# Altium footprint library 2412_Coin_Cell.PcbLib: 1 footprints
Each footprint in its own frame and in the unit in brackets; x right, y up, seen from the top. Pads: shape width x height; smd on the part's side, far side on the other; paste and mask are expansions set on the pad; w line width, h text height; cw(c..) or ccw(c..) is an arc to the next point about the centre after c.
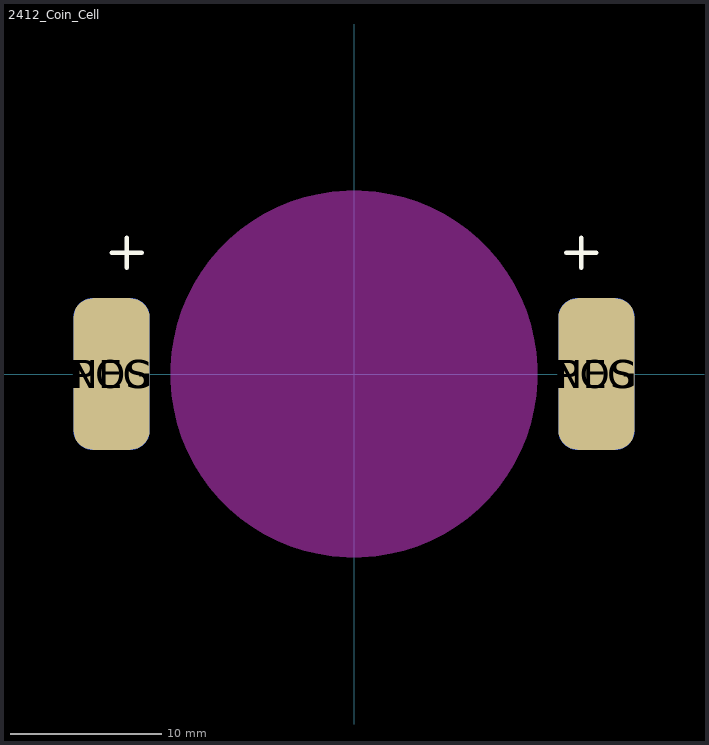
[diagram p0: the footprint, top view; thin cyan lines are the x and y axes]

## 2412_Coin_Cell [mm]
pads (4):
  rrect50% 5x10 smd far side: NEG(-16,0) NEG(16,0)
  rrect50% 5x10 smd: POS(-16,0) POS(16,0)
Top Overlay:
  lines w0.3: -16,8 -14,8 ; -15,7 -15,9 ; 14,8 16,8 ; 15,7 15,9
Bottom Overlay:
  lines w0.3: -15,7 -15,9 ; 15,7 15,9
Keep-Out Layer:
  board cut-out: -12.1,0 -12.1,-0.475 -12.025,-1.423 -11.877,-2.362 -11.655,-3.287 -11.361,-4.191 -10.997,-5.07 -10.565,-5.917 -10.069,-6.728 -9.51,-7.497 -8.892,-8.22 -8.22,-8.892 -7.497,-9.51 -6.728,-10.069 -5.917,-10.565 -5.07,-10.997 -4.191,-11.361 -3.287,-11.655 -2.362,-11.877 -1.423,-12.025 -0.475,-12.1 0,-12.1 0.475,-12.1 1.423,-12.025 2.362,-11.877 3.287,-11.655 4.191,-11.361 5.07,-10.997 5.917,-10.565 6.728,-10.069 7.497,-9.51 8.22,-8.892 8.892,-8.22 9.51,-7.497 10.069,-6.728 10.565,-5.917 10.997,-5.07 11.361,-4.191 11.655,-3.287 11.877,-2.362 12.025,-1.423 12.1,-0.475 12.1,0 12.1,0.475 12.025,1.423 11.877,2.362 11.655,3.287 11.361,4.191 10.997,5.07 10.565,5.917 10.069,6.728 9.51,7.497 8.892,8.22 8.22,8.892 7.497,9.51 6.728,10.069 5.917,10.565 5.07,10.997 4.191,11.361 3.287,11.655 2.362,11.877 1.423,12.025 0.475,12.1 0,12.1 -0.475,12.1 -1.423,12.025 -2.362,11.877 -3.287,11.655 -4.191,11.361 -5.07,10.997 -5.917,10.565 -6.728,10.069 -7.497,9.51 -8.22,8.892 -8.892,8.22 -9.51,7.497 -10.069,6.728 -10.565,5.917 -10.997,5.07 -11.361,4.191 -11.655,3.287 -11.877,2.362 -12.025,1.423 -12.1,0.475
3D body: height 0.75, standoff 0.4, extent -16,-4 16,4.191
3D body: height -0.9, standoff -1.25, extent -16,-4 16,4.191
3D body: height 0.4, standoff -0.8, extent -12,-11.997 12,11.997